# Altium footprint library Latrobe.PCBLIB: 50 footprints (part 1 of 4)
Each footprint in its own frame and in the unit in brackets; x right, y up, seen from the top. Pads: shape width x height; smd on the part's side, far side on the other; paste and mask are expansions set on the pad; w line width, h text height; cw(c..) or ccw(c..) is an arc to the next point about the centre after c.
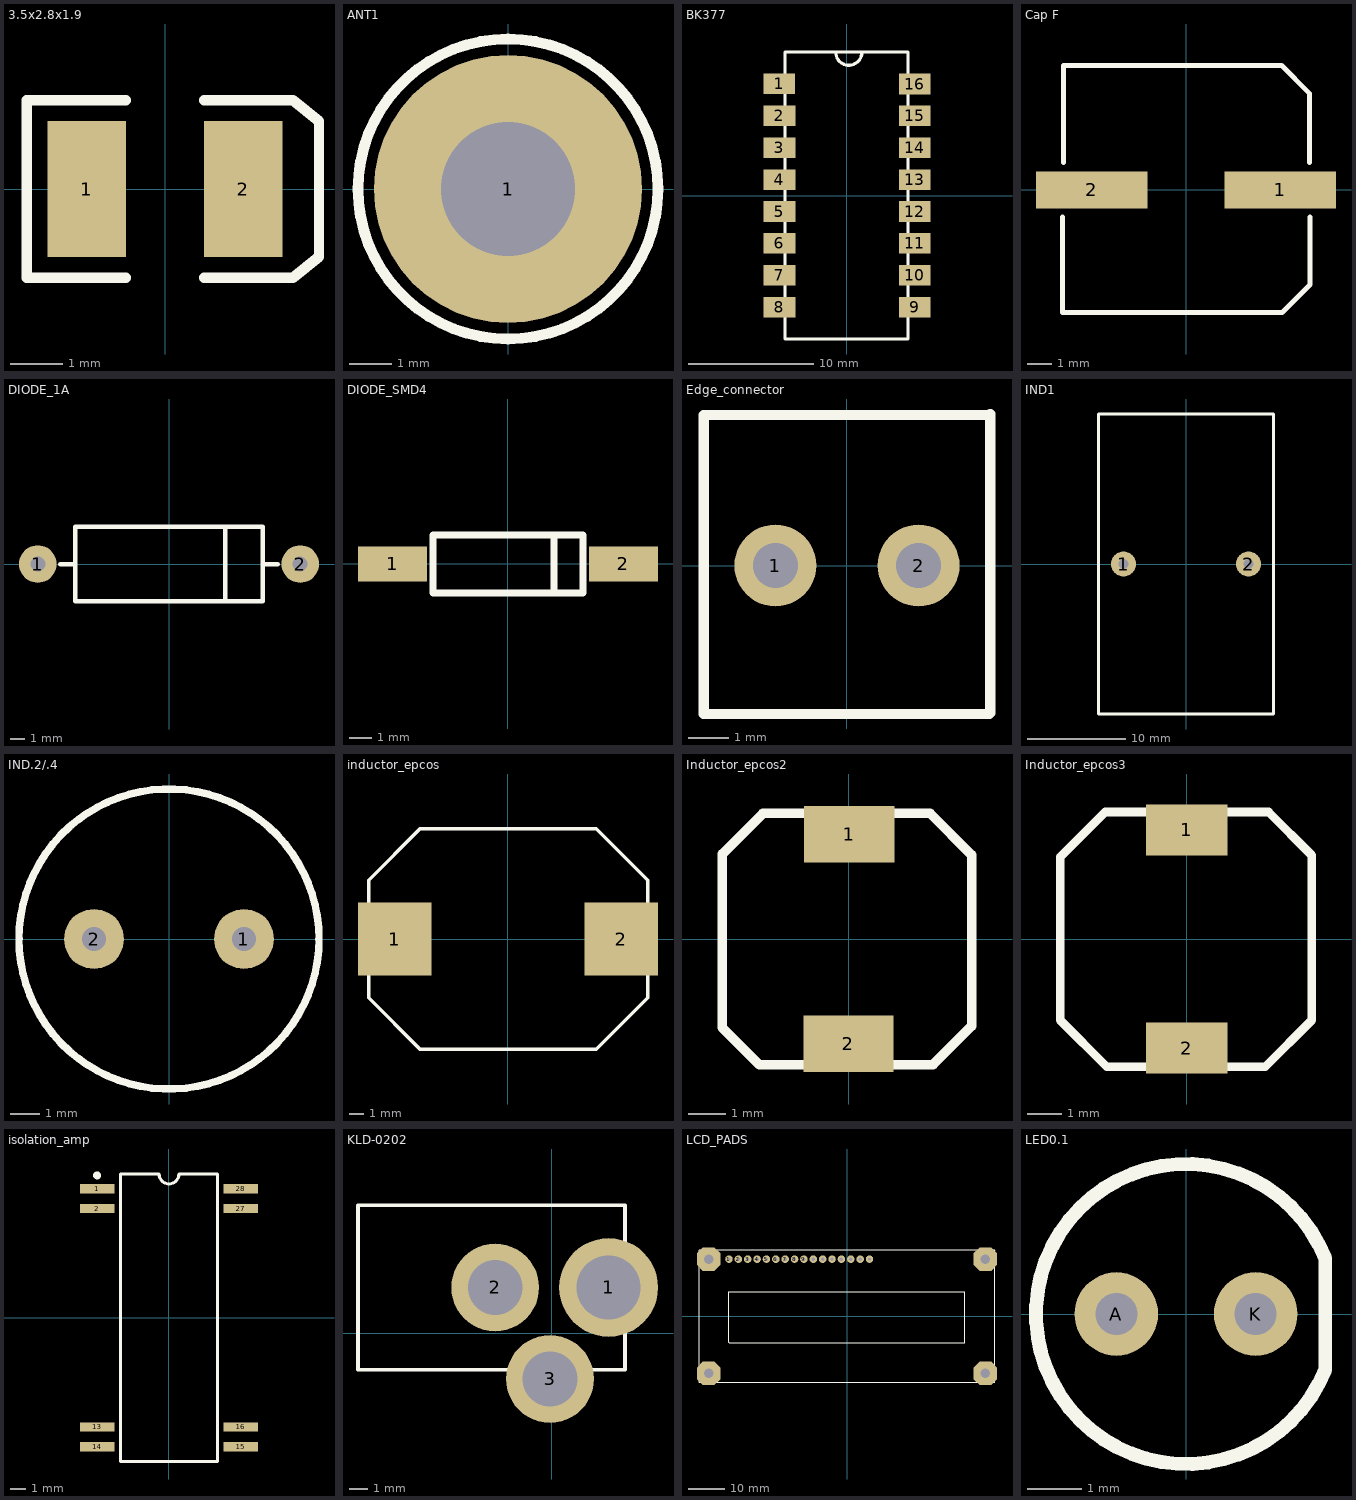
[diagram p0: the footprints below, top view; thin cyan lines are the x and y axes]

## 3.5x2.8x1.9 [mm]
pads (2):
  rect 1.5x2.6 smd: 1(-1.5,0) 2(1.5,0)
TopOverlay:
  lines w0.2: -0.75,-1.7 -2.65,-1.7 -2.65,1.7 -0.75,1.7 ; 0.75,-1.7 2.45,-1.7 2.95,-1.3 2.95,1.3 2.45,1.7 0.75,1.7

## ANT1 [mm]
pads (1):
  round 6.35 hole 3.175: 1(0,0)
TopOverlay:
  circle w0.254: c0,0 r3.556

## BK377 [mm] "Minicircuits VCO"
pads (16):
  rect 2.54x1.65 smd: 1(-5.403,8.895) 2(-5.393,6.345) 3(-5.393,3.805) 4(-5.393,1.265) 5(-5.393,-1.275) 6(-5.393,-3.815) 7(-5.393,-6.355) 8(-5.393,-8.895) 9(5.404,-8.895) 10(5.404,-6.355) 11(5.404,-3.815) 12(5.404,-1.275) 13(5.404,1.265) 14(5.404,3.805) 15(5.404,6.345) 16(5.404,8.885)
TopOverlay:
  lines w0.254: -0.903,11.425 ccw(c0.145,11.425) 1.192,11.425 ; -4.928,-11.435 4.872,-11.435 4.872,11.425 -4.928,11.425 -4.928,-11.435

## Cap F [mm]
pads (2):
  rect 4.5x1.5 smd: 1(3.8,0) 2(-3.8,0)
TopOverlay:
  lines w0.2: -4.975,-1.091 -4.975,-4.95 3.875,-4.95 5,-3.825 5,-1.1 ; -4.95,1.1 -4.95,5.025 3.85,5.025 4.975,3.9 4.975,1.1

## DIODE_1A [mil]
pads (2):
  round 100 hole 40: 1(-350,0) 2(350,0)
TopOverlay:
  lines w12: -290,0 -250,0 ; 150,-100 150,100 ; 250,0 290,0 ; -250,-100 250,-100 250,100 -250,100 -250,-100

## DIODE_SMD4 [mil]
pads (2):
  rect 120x60 smd: 1(-200,0) 2(200,0)
TopOverlay:
  lines w12: 80,-50 80,50 ; -130,-50 -130,50 130,50 130,-50 -130,-50

## Edge_connector [mm]
pads (2):
  round 2 hole 1.1: 1(-1.75,0) 2(1.75,0)
TopOverlay:
  lines w0.254: 3.475,-3.625 -3.5,-3.625 -3.5,3.675 3.475,3.675 ; 3.5,-3.6 3.5,3.7

## IND1 [mil]
pads (2):
  round 100 hole 40: 1(-250,0) 2(250,0)
TopOverlay:
  lines w12: -350,-600 350,-600 350,600 -350,600 -350,0 -350,-600

## IND.2/.4 [mil]
pads (2):
  round 80 hole 32: 1(100,0) 2(-100,0)
TopOverlay:
  circle w10: c0,0 r200

## inductor_epcos [mm] "330uH, 1.O Amp DC (Max) Power Inductor"
height 7.11
pads (2):
  rect 5x5 smd: 1(-7.712,0) 2(7.713,0)
TopOverlay:
  lines w0.254: -9.487,-4 -9.487,4 -5.987,7.5 6.013,7.5 9.513,4 9.513,-4 6.013,-7.5 -5.987,-7.5 -9.487,-4

## Inductor_epcos2 [mm] "power inductor shielded"
height 3
pads (2):
  rect 2.4x1.5 smd: 1(0.013,2.788) 2(-0.012,-2.787)
TopOverlay:
  lines w0.254: -3.362,-2.362 -2.387,-3.337 2.238,-3.337 3.263,-2.312 3.263,2.238 2.163,3.338 -2.287,3.338 -3.362,2.263 -3.362,-2.362

## Inductor_epcos3 [mm] "Power inductor 7x7mm shielded"
height 3.3
pads (2):
  rect 2.4x1.5 smd: 1(0,3.213) 2(0,-3.212)
TopOverlay:
  lines w0.254: -3.725,-2.387 -2.35,-3.762 2.3,-3.762 3.675,-2.387 3.675,2.463 2.4,3.738 -2.4,3.738 -3.725,2.413 -3.725,-2.387

## isolation_amp [mm]
pads (8):
  rect 2.2x0.6 smd: 1(-4.6,8.255) 2(-4.6,6.985) 13(-4.6,-6.985) 14(-4.6,-8.255) 15(4.6,-8.255) 16(4.6,-6.985) 27(4.6,6.985) 28(4.6,8.255)
TopOverlay:
  circle w0.25: c-4.6,9.105 r0.125
  lines w0.2: -3.1,-9.2 -3.1,9.2 -0.635,9.2 ccw(c0,9.2) 0.635,9.2 3.1,9.2 3.1,-9.2 -3.1,-9.2

## KLD-0202 [mm] "DC Power Jack, 2.5mm, KLD Series, PCB Mount"
pads (3):
  round 5.4 hole 3.5: 1(3.1,2.5)
  round 4.8 hole 3: 2(-3.1,2.5) 3(-0.1,-2.5)
TopOverlay:
  lines w0.2: -2.3,-2 -10.6,-2 -10.6,7 4,7 4,4.7 ; 2.1,-2 4,-2 4,0.3

## LCD_PADS [mm]
pads (20):
  round 2.032 hole 0.9: 1(-32,15.46) 2(-29.459,15.46) 3(-26.919,15.46) 4(-24.379,15.46) 5(-21.839,15.46) 6(-19.299,15.46) 7(-16.759,15.46) 8(-14.219,15.46) 9(-11.679,15.46) 10(-9.139,15.46) 11(-6.599,15.46) 12(-4.059,15.46) 13(-1.519,15.46) 14(1.021,15.46) 15(3.561,15.46)
  round 2.032 hole 0.762: 16(6.101,15.46)
  oct 6.35x6.35 hole 2.6: ""(-37.5,-15.5) ""(-37.5,15.5) ""(37.5,-15.5) ""(37.5,15.5)
TopOverlay:
  lines w0.254: -40.076,-17.966 39.883,-17.966 40.01,-17.839 40.01,17.873 39.908,17.975 -39.975,17.975 -40.076,17.873 -40.076,-17.966 ; -32.075,-7.095 -31.974,-7.197 31.984,-7.197 31.984,6.595 31.882,6.697 -32.075,6.697 -32.075,-7.095

## LED0.1 [mil]
pads (2):
  round 60 hole 30: A(-50,0) K(50,0)
TopOverlay:
  lines w10: 100,-40 cw(c0,0) 100,40 100,-40